# Altium schematic symbol library Resistor_0603.Schlib: 1 symbol
Pins are listed as number, name and electrical type; pins without a type are passive.

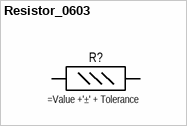
[diagram p0: symbol Resistor_0603]

## Resistor_0603
designator R?
pins: 1, 2